# Altium schematic symbol library 100nF.SchLib: 1 symbol
Pins are listed as number, name and electrical type; pins without a type are passive.

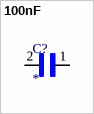
[diagram p0: symbol 100nF]

## 100nF
designator C?
Cap Ceramic 0.1uF 50V Y5V -20% to 80% Pad SMD 0603 85?C T/R; MP: CC0603ZRY5V9BB104; Package: None; Price: None; Value: *; Availability: Unavailable
footprint 100nF
pins: 1, 2